# Altium schematic symbol library DS3231_RTC_SCHEMATIC.SchLib: 1 symbol
Pins are listed as number, name and electrical type; pins without a type are passive.

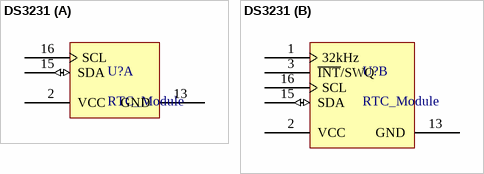
[diagram p0: symbol DS3231]

## DS3231
designator U?, comment RTC_Module
DS3231 Real Time Clock (RTC) Clock Timing Raspberry Pi Pico Platform Evaluation Expansion Board; Manufacturer: Seeed Technology Co., Ltd; Type: Clock Timing; Function: Real Time Clock (RTC); ComponentLink1Description: Datasheet; ComponentLink1URL: https://www.analog.com/media/en/technical-documentation/data-sheets/DS3231.pdf
footprint PCBComponent_1
part A pins: 2 VCC, 13 GND, 15 SDA (io), 16 SCL
part B pins: 1 32kHz, 2 VCC (power), 3 ~{INT}/SWQ, 13 GND (power), 15 SDA (io), 16 SCL